# EAGLE library part NANO120-48 (library firefly)
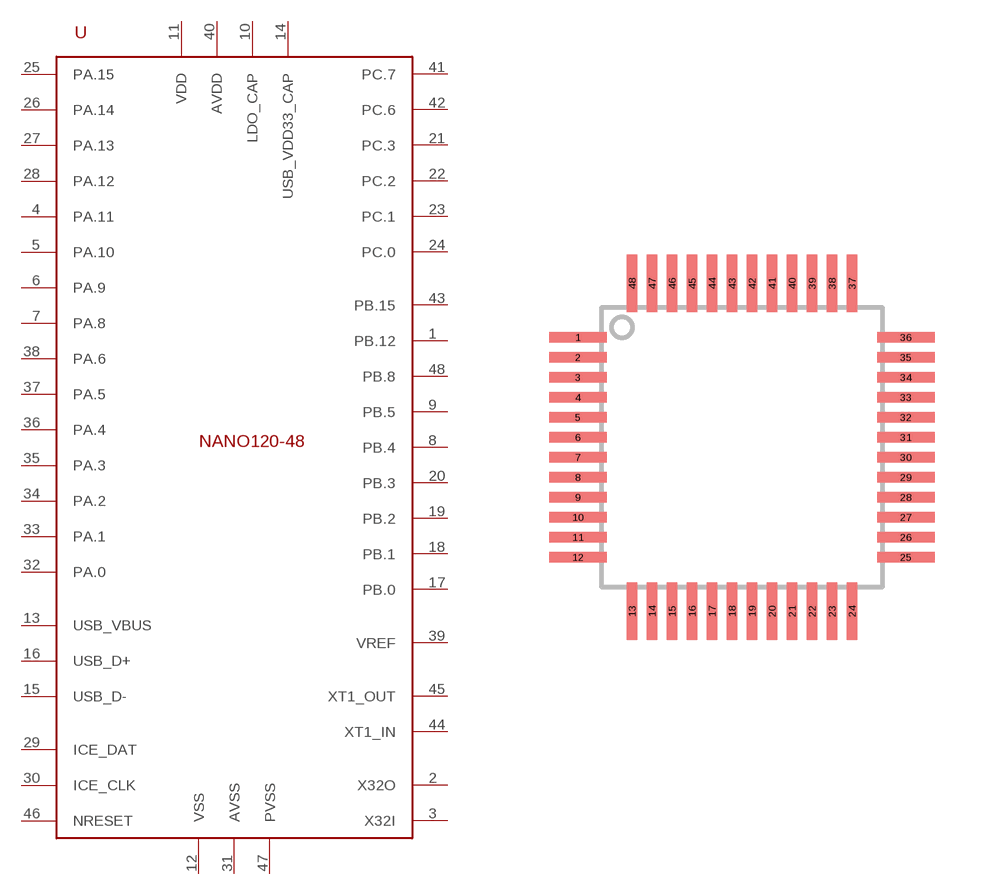
[diagram p19: symbol with the pads of LQFP-48; footprint LQFP-48]

Designator prefix -

## NANO120-48  [LQFP-48]
1  PB.12
2  X32O
3  X32I
4  PA.11
5  PA.10
6  PA.9
7  PA.8
8  PB.4
9  PB.5
10  LDO_CAP
11  VDD
12  VSS
13  USB_VBUS
14  USB_VDD33_CAP
15  USB_D-
16  USB_D+
17  PB.0
18  PB.1
19  PB.2
20  PB.3
21  PC.3
22  PC.2
23  PC.1
24  PC.0
25  PA.15
26  PA.14
27  PA.13
28  PA.12
29  ICE_DAT
30  ICE_CLK
31  AVSS
32  PA.0
33  PA.1
34  PA.2
35  PA.3
36  PA.4
37  PA.5
38  PA.6
39  VREF
40  AVDD
41  PC.7
42  PC.6
43  PB.15
44  XT1_IN
45  XT1_OUT
46  NRESET
47  PVSS
48  PB.8

## Footprint LQFP-48 (pad centres in mm)
smd 1.45 x 0.27: 1 -4.1,2.75; 2 -4.1,2.25; 3 -4.1,1.75; 4 -4.1,1.25; 5 -4.1,0.75; 6 -4.1,0.25; 7 -4.1,-0.25; 8 -4.1,-0.75; 9 -4.1,-1.25; 10 -4.1,-1.75; 11 -4.1,-2.25; 12 -4.1,-2.75; 25 4.1,-2.75; 26 4.1,-2.25; 27 4.1,-1.75; 28 4.1,-1.25; 29 4.1,-0.75; 30 4.1,-0.25; 31 4.1,0.25; 32 4.1,0.75; 33 4.1,1.25; 34 4.1,1.75; 35 4.1,2.25; 36 4.1,2.75
smd 0.27 x 1.45: 13 -2.75,-4.1; 14 -2.25,-4.1; 15 -1.75,-4.1; 16 -1.25,-4.1; 17 -0.75,-4.1; 18 -0.25,-4.1; 19 0.25,-4.1; 20 0.75,-4.1; 21 1.25,-4.1; 22 1.75,-4.1; 23 2.25,-4.1; 24 2.75,-4.1; 37 2.75,4.1; 38 2.25,4.1; 39 1.75,4.1; 40 1.25,4.1; 41 0.75,4.1; 42 0.25,4.1; 43 -0.25,4.1; 44 -0.75,4.1; 45 -1.25,4.1; 46 -1.75,4.1; 47 -2.25,4.1; 48 -2.75,4.1